# Altium footprint library DRA.PcbLib: 72 footprints (part 6 of 6)
Each footprint in its own frame and in the unit in brackets; x right, y up, seen from the top. Pads: shape width x height; smd on the part's side, far side on the other; paste and mask are expansions set on the pad; w line width, h text height; cw(c..) or ccw(c..) is an arc to the next point about the centre after c.
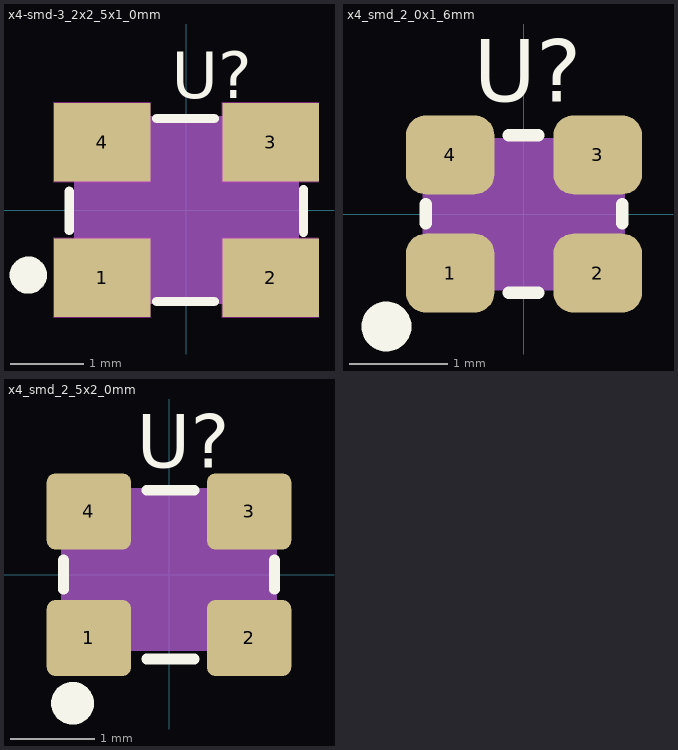
[diagram p5: the footprints below, top view; thin cyan lines are the x and y axes]

## x4-smd-3_2x2_5x1_0mm [mil]
pads (4):
  rect 52x42 smd: 1(-45.28,-36.42) 2(45.28,-36.42) 3(45.28,36.42) 4(-45.28,36.42)
TOP keep-out:
  region: -19.55,58 -71.55,58 -71.55,15 -67.55,15 -19.55,15
  region: 71,-14.84 19,-14.84 19,-57.84 23,-57.84 71,-57.84
  region: 71,58 19,58 19,15 23,15 71,15
  region: -19.55,-14.84 -71.55,-14.84 -71.55,-57.84 -67.55,-57.84 -19.55,-57.84
Top Overlay:
  circle w10: c-85,-35 r5
  lines w5: -62.99,-11 -63,10 ; -16,-49.21 15,-49.21 ; -16,49.21 15,49.21 ; 62.99,-12 62.99,11
  text "U?" at -8,60 h25
PLACE_BOUND_TOP:
  region: -60,-50 60,-50 60,50 -60,50
DRAWING_ORIGIN:
  lines w1: -25,0 25,0 ; 0,-25 0,25
PIN_NUMBER:
  text "2" at 37.28,-36.42 h20
  text "4" at -53.28,36.42 h20
  text "3" at 37.28,36.42 h20
  text "1" at -53.28,-36.42 h20
ASSEMBLY_TOP:
  circle w1: c-45,-35 r13.42
  lines w1: -60,-50 -60,50 60,50 60,-50 -60,-50
  text "U?" at -15,-22 h25
  text "U?" at -9,19 h25
BODY_CENTER:
  lines w1: -50,0 50,0 ; 0,-50 0,50
3D body: height 150, standoff 0, extent -60,-50 60,50

## x4_smd_2_0x1_6mm [mil]
pads (4):
  rrect50% 35.42x31.5 smd: 1(-29.53,-23.62) 2(29.53,-23.62) 3(29.53,23.62) 4(-29.53,23.62)
Top Overlay:
  circle w10: c-55,-45 r5
  lines w5: -39.37,-3.78 -39.37,3.94 ; -6.06,-31.5 5.75,-31.5 ; -6.06,31.5 5.75,31.5 ; 39.37,-3.78 39.37,3.94
  text "U?" at -20,45 h25
PLACE_BOUND_TOP:
  region: -40,-30 40,-30 40,30 -40,30
DRAWING_ORIGIN:
  lines w1: -25,0 25,0 ; 0,-25 0,25
PIN_NUMBER:
  text "3" at 19.53,23.62 h25
  text "1" at -39.53,-23.62 h25
  text "2" at 19.53,-23.62 h25
  text "4" at -39.53,23.62 h25
ASSEMBLY_TOP:
  circle w10: c-30,-20 r5
  lines w1: -40,-30 -40,30 40,30 40,-30 -40,-30
  text "U?" at -20,0 h25
  text "U?" at -15,-20 h25
3D body: height 150, standoff 0, extent -40,-30 40,30

## x4_smd_2_5x2_0mm [mil]
pads (4):
  rrect22% 39.36x35.42 smd: 1(-37.4,-29.53) 2(37.4,-29.53) 3(37.4,29.53) 4(-37.4,29.53)
Top Overlay:
  circle w10: c-45,-60 r5
  lines w5: -49.21,-6.73 -49.21,6.89 ; -10.35,-39.37 11.81,-39.37 ; -10.35,39.37 11.81,39.37 ; 49.21,-6.73 49.21,6.89
  text "U?" at -15,50 h25
PLACE_BOUND_TOP:
  region: -50,-35 50,-35 50,40 -50,40
DRAWING_ORIGIN:
  lines w1: -25,0 25,0 ; 0,-25 0,25
PIN_NUMBER:
  text "3" at 27.4,29.53 h25
  text "1" at -47.4,-29.53 h25
  text "2" at 27.4,-29.53 h25
  text "4" at -47.4,29.53 h25
ASSEMBLY_TOP:
  circle w10: c-40,-25 r5
  lines w1: -50,-35 -50,40 50,40 50,-35 -50,-35
  text "U?" at -10,0 h25
  text "U?" at -5,-25 h25
3D body: height 150, standoff 0, extent -50,-35 50,40